# EAGLE library part *541 (library digital)
74xx541: Octal tri-state buffer
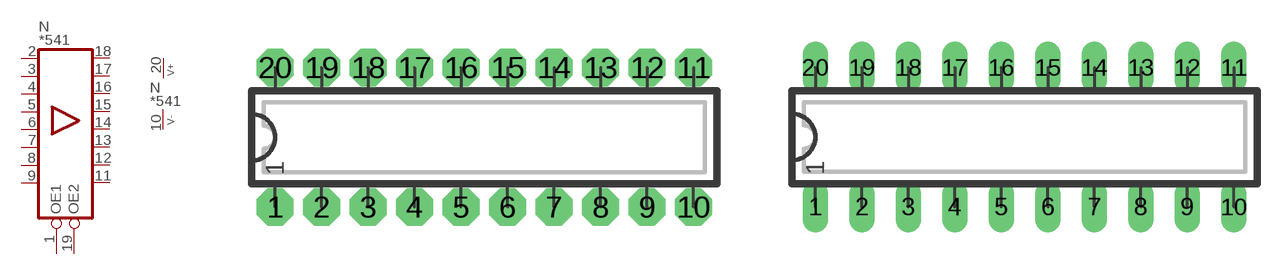
[diagram p20: symbol with the pads of DIP20N; footprints DIP20N, DIP20L]

Designator prefix N; gates  =BUF8 P=V+-

## 74AC541N, 74ACT541N, 74HC541N, 74HCT541N  [DIP20N]
1   :OE1  in
2   :I1  in
3   :I2  in
4   :I3  in
5   :I4  in
6   :I5  in
7   :I6  in
8   :I7  in
9   :I8  in
10  P:V-  pwr
11   :O8  out
12   :O7  out
13   :O6  out
14   :O5  out
15   :O4  out
16   :O3  out
17   :O2  out
18   :O1  out
19   :OE2  in
20  P:V+  pwr

## 74AC541, 74ACT541, 74HC541, 74HCT541  [DIP20L]
Pads as for DIP20N

## 74AC541L, 74ACT541L, 74HC541L, 74HCT541L  [DIP20L]
Pads as for DIP20N

## 74AC541R, 74ACT541R, 74HC541R, 74HCT541R  [DIP20R]
Pads as for DIP20N

## 541S  [SO20W]
Pads as for DIP20N

## Footprint DIP20N (pad centres in mm)
DIP-20 Standard IC package, 20 pins
drill 0.813 pad 2.032 octagon: 1 0,0; 2 2.54,0; 3 5.08,0; 4 7.62,0; 5 10.16,0; 6 12.7,0; 7 15.24,0; 8 17.78,0; 9 20.32,0; 10 22.86,0; 11 22.86,7.62; 12 20.32,7.62; 13 17.78,7.62; 14 15.24,7.62; 15 12.7,7.62; 16 10.16,7.62; 17 7.62,7.62; 18 5.08,7.62; 19 2.54,7.62; 20 0,7.62

## Footprint DIP20L (pad centres in mm)
DIP-20, long pads Standard IC package, 20 pins
drill 0.813 pad 1.397 long: 1 0,0; 2 2.54,0; 3 5.08,0; 4 7.62,0; 5 10.16,0; 6 12.7,0; 7 15.24,0; 8 17.78,0; 9 20.32,0; 10 22.86,0; 11 22.86,7.62; 12 20.32,7.62; 13 17.78,7.62; 14 15.24,7.62; 15 12.7,7.62; 16 10.16,7.62; 17 7.62,7.62; 18 5.08,7.62; 19 2.54,7.62; 20 0,7.62

## Footprint DIP20R (pad centres in mm)
DIP-20, reduced pads Standard IC package, 20 pins
drill 0.813 pad 1.397 square: 1 0,0; 2 2.54,0; 3 5.08,0; 4 7.62,0; 5 10.16,0; 6 12.7,0; 7 15.24,0; 8 17.78,0; 9 20.32,0; 10 22.86,0; 11 22.86,7.62; 12 20.32,7.62; 13 17.78,7.62; 14 15.24,7.62; 15 12.7,7.62; 16 10.16,7.62; 17 7.62,7.62; 18 5.08,7.62; 19 2.54,7.62; 20 0,7.62

## Footprint SO20W (pad centres in mm)
SO-20, SMD wide SOIC IC package, 20 pins, wide
smd 0.635 x 1.778: 1 -5.715,-4.763; 2 -4.445,-4.763; 3 -3.175,-4.763; 4 -1.905,-4.763; 5 -0.635,-4.763; 6 0.635,-4.763; 7 1.905,-4.763; 8 3.175,-4.763; 9 4.445,-4.763; 10 5.715,-4.763; 11 5.715,4.763; 12 4.445,4.763; 13 3.175,4.763; 14 1.905,4.763; 15 0.635,4.763; 16 -0.635,4.763; 17 -1.905,4.763; 18 -3.175,4.763; 19 -4.445,4.763; 20 -5.715,4.763